# Altium footprint library AC(DC)-DC.PcbLib: 2 footprints
Each footprint in its own frame and in the unit in brackets; x right, y up, seen from the top. Pads: shape width x height; smd on the part's side, far side on the other; paste and mask are expansions set on the pad; w line width, h text height; cw(c..) or ccw(c..) is an arc to the next point about the centre after c.
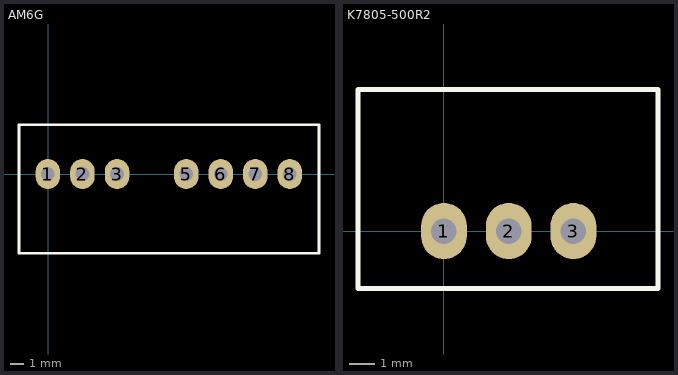
[diagram p0: the footprints below, top view; thin cyan lines are the x and y axes]

## AM6G [mm]
pads (7):
  oval 1.8x2.2 hole 1: 1(-0.025,0) 2(2.515,0) 3(5.055,0) 5(10.135,0) 6(12.675,0) 7(15.215,0) 8(17.755,0)
Top Overlay:
  lines w0.2: -2.15,-5.825 19.9,-5.825 19.9,3.625 -2.15,3.625 -2.15,-5.825
3D body "PDQ2-D5-S3-S.stp": height 11.1, standoff -4.1, extent -2.025,-5.7 19.775,3.5

## K7805-500R2 [mm]
pads (3):
  oval 1.8x2.2 hole 1: 1(0,0) 2(2.54,0) 3(5.08,0)
Top Overlay:
  lines w0.2: -3.375,-2.25 -3.375,5.55 8.4,5.55 8.4,-2.25 -3.375,-2.25
3D body "User Library-r-78xx-0_5.step": height 10.3, standoff -2.98, extent -3.225,-2.125 8.275,5.425